# Altium footprint library ERJ-14YJ242U.PcbLib: 3 footprints
Each footprint in its own frame and in the unit in brackets; x right, y up, seen from the top. Pads: shape width x height; smd on the part's side, far side on the other; paste and mask are expansions set on the pad; w line width, h text height; cw(c..) or ccw(c..) is an arc to the next point about the centre after c.
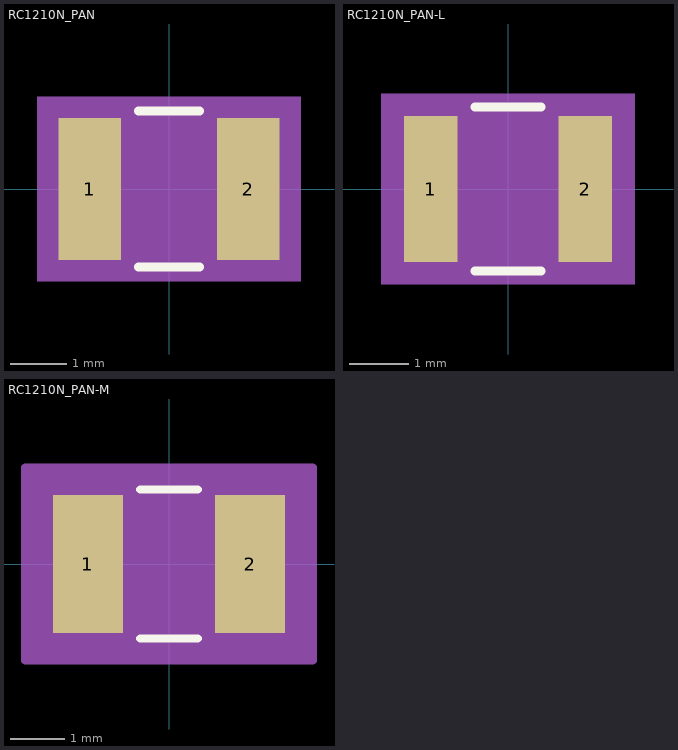
[diagram p0: the footprints below, top view; thin cyan lines are the x and y axes]

## RC1210N_PAN [mm]
pads (2):
  rect 1.1x2.5 smd paste+0 mask+0: 1(-1.4,0) 2(1.4,0)
Top Overlay:
  lines w0.152: -0.542,-1.377 0.542,-1.377 ; -0.542,1.377 0.542,1.377
Mechanical 5:
  region: 2.331,-1.631 -2.331,-1.631 -2.331,1.631 2.331,1.631
Mechanical 13:
  lines w0.025: -1.6,-1.25 -1.6,1.25 ; -1.6,-1.25 -0.85,-1.25 -0.85,1.25 -1.6,1.25 ; -1.6,-1.25 1.6,-1.25 ; -1.6,-1.25 -1.6,1.25 ; -1.6,1.25 1.6,1.25 ; 1.6,-1.25 0.85,-1.25 0.85,1.25 1.6,1.25 ; 1.6,-1.25 1.6,1.25 ; 1.6,-1.25 1.6,1.25
Mechanical 15:
  region: 2.204,-1.504 -2.204,-1.504 -2.204,1.504 2.204,1.504
  lines w0.152: -2.204,-1.504 -2.204,1.504 2.204,1.504 2.204,-1.504 -2.204,-1.504
3D body "RC1210N_PAN.step": height 0.71, standoff 0, extent -1.6,-1.25 1.6,1.25

## RC1210N_PAN-L [mm]
pads (2):
  rect 0.9x2.45 smd paste+0 mask+0: 1(-1.3,0) 2(1.3,0)
Top Overlay:
  lines w0.152: -0.554,-1.377 0.554,-1.377 ; -0.554,1.377 0.554,1.377
Mechanical 5:
  region: 2.131,-1.606 -2.131,-1.606 -2.131,1.606 2.131,1.606
Mechanical 13:
  lines w0.025: -1.6,-1.25 -1.6,1.25 ; -1.6,-1.25 -0.85,-1.25 -0.85,1.25 -1.6,1.25 ; -1.6,-1.25 1.6,-1.25 ; -1.6,-1.25 -1.6,1.25 ; -1.6,1.25 1.6,1.25 ; 1.6,-1.25 0.85,-1.25 0.85,1.25 1.6,1.25 ; 1.6,-1.25 1.6,1.25 ; 1.6,-1.25 1.6,1.25
Mechanical 15:
  region: 1.852,-1.327 -1.852,-1.327 -1.852,1.327 1.852,1.327
  lines w0.152: -1.852,-1.327 -1.852,1.327 1.852,1.327 1.852,-1.327 -1.852,-1.327
3D body "RC1210N_PAN.step": height 0.71, standoff 0, extent -1.6,-1.25 1.6,1.25

## RC1210N_PAN-M [mm]
pads (2):
  rect 1.3x2.55 smd paste+0 mask+0: 1(-1.5,0) 2(1.5,0)
Top Overlay:
  lines w0.152: -0.533,-1.377 0.533,-1.377 ; -0.533,1.377 0.533,1.377
Mechanical 5:
  region: 2.531,-1.656 -2.531,-1.656 -2.531,1.656 2.531,1.656
Mechanical 13:
  lines w0.025: -1.6,-1.25 -1.6,1.25 ; -1.6,-1.25 -0.85,-1.25 -0.85,1.25 -1.6,1.25 ; -1.6,-1.25 1.6,-1.25 ; -1.6,-1.25 -1.6,1.25 ; -1.6,1.25 1.6,1.25 ; 1.6,-1.25 0.85,-1.25 0.85,1.25 1.6,1.25 ; 1.6,-1.25 1.6,1.25 ; 1.6,-1.25 1.6,1.25
Mechanical 15:
  region: 2.658,-1.783 -2.658,-1.783 -2.658,1.783 2.658,1.783
  lines w0.152: -2.658,-1.783 -2.658,1.783 2.658,1.783 2.658,-1.783 -2.658,-1.783
3D body "RC1210N_PAN.step": height 0.71, standoff 0, extent -1.6,-1.25 1.6,1.25